# EAGLE library part NACHTELK_COMMUNICATION-UART_CH340 (library NachtElk_Communication_Uart)
Nacht Elk. - Communication UART Technology Ekrem Turan Fırat Nacht Elk. - UART CH340G Company: WCH Operating Voltage: 3.3V and 5V Operating Speed: 12MHz Baud rate: 50bps up to 2Mbps Operating temperature: -40 °C up to +85°C Package: SOIC-16 Datasheet <https://www.robolinkmarket.com/Data/EditorFiles/PDF/ch340g-ic-datasheet.pdf> 20.01.2022
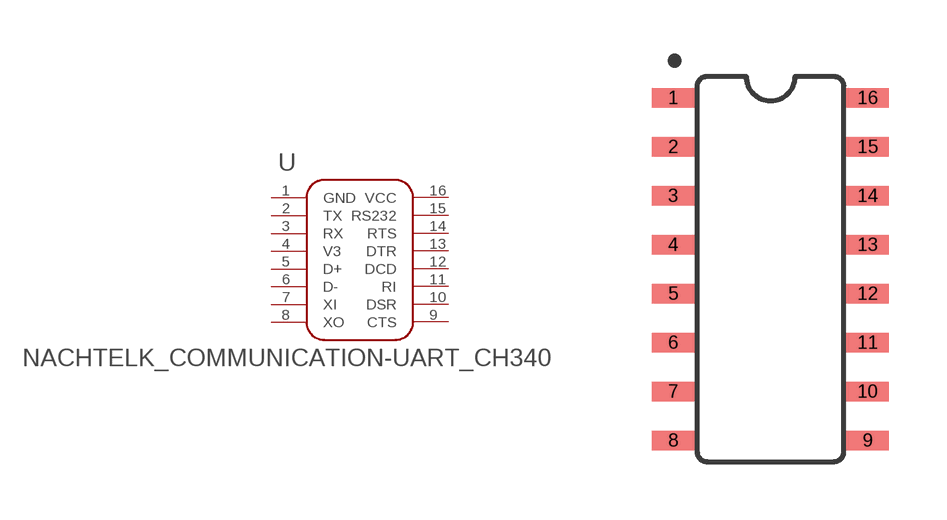
[diagram p0: symbol with the pads of SOIC-16; footprint SOIC-16]

Designator prefix U

## NACHTELK_COMMUNICATION-UART_CH340 (BAUD-RATE: 50bps up to 2Mbps; PACKAGE: SOIC-16; ROBOLINK-NUMBER: RLM2C06-0340; SPEED: 12MHz; TEMPERATURE: -40 °C up to +85°C; VALUE: CH340G; VOLTAGE: 3.3V and 5V)  [SOIC-16]
1  GND  pwr
2  TX
3  RX
4  V3
5  D+
6  D-
7  XI  pas
8  XO  pas
9  CTS
10  DSR
11  RI
12  DCD
13  DTR
14  RTS
15  RS232
16  VCC  pwr

## Footprint SOIC-16 (pad centres in mm)
Nacht Elk. - Uart Devices Ekrem Turan Fırat Package: SOIC-16 Dimensions(LxWxH): 10x3.8x1.75 mm 17.01.2022
smd 1.1 x 0.5: 1 -2.527,4.521; 2 -2.527,3.251; 3 -2.527,1.981; 4 -2.527,0.711; 5 -2.527,-0.559; 6 -2.527,-1.829; 7 -2.527,-3.099; 8 -2.527,-4.369; 9 2.518,-4.369; 10 2.518,-3.099; 11 2.518,-1.829; 12 2.518,-0.559; 13 2.518,0.711; 14 2.518,1.981; 15 2.518,3.251; 16 2.518,4.521